# EAGLE library part PCA9545 (library PCA9545)
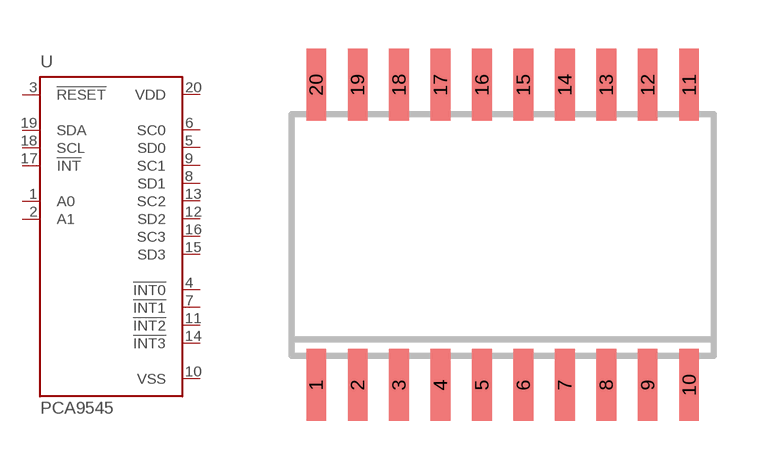
[diagram p33: symbol with the pads of SO20W; footprint SO20W]

Designator prefix U

## PCA9545  [SO20W]
1  A0  in
2  A1  in
3  !RESET  in
4  !INT0
5  SD0
6  SC0
7  !INT1
8  SD1
9  SC1
10  VSS  pwr
11  !INT2
12  SD2
13  SC2
14  !INT3
15  SD3
16  SC3
17  !INT
18  SCL  in
19  SDA
20  VDD  pwr

## Footprint SO20W (pad centres in mm)
Small Outline Package 7.6 x 13.2 mm
smd 0.6 x 2.2: 1 -5.715,-4.6; 2 -4.445,-4.6; 3 -3.175,-4.6; 4 -1.905,-4.6; 5 -0.635,-4.6; 6 0.635,-4.6; 7 1.905,-4.6; 8 3.175,-4.6; 9 4.445,-4.6; 10 5.715,-4.6; 11 5.715,4.6; 12 4.445,4.6; 13 3.175,4.6; 14 1.905,4.6; 15 0.635,4.6; 16 -0.635,4.6; 17 -1.905,4.6; 18 -3.175,4.6; 19 -4.445,4.6; 20 -5.715,4.6